# Altium integrated library antennas.IntLib: 4 symbols
Pins are listed as number, name and electrical type; pins without a type are passive.

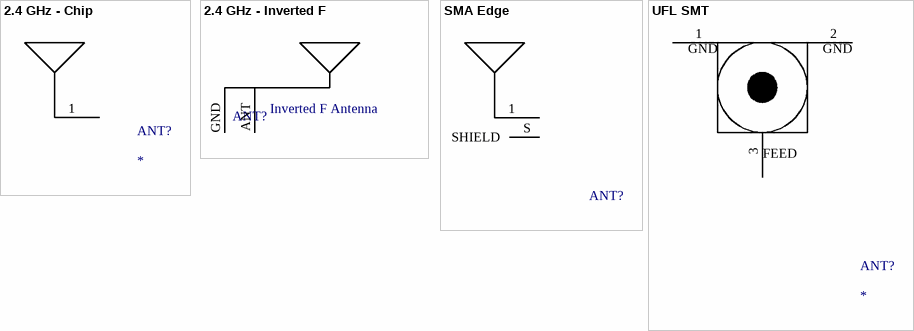
[diagram p0: symbols 2.4 GHz - Chip to UFL SMT]

## 2.4 GHz - Chip
designator ANT?
JOHANSON TECHNOLOGY - 2450AT43B100E - 50 Ohm 2.45 GHz chip antenna
footprint JT_CHIP_ANTENNA_7x2x2 (JOHANSON TECHNOLOGY 2450AT43B100E 2.45 GHZ)
pins: 1 FEED

## 2.4 GHz - Inverted F
designator ANT?  (value not drawn)
TI SWRU120D; ComponentLink1Description: Design Note; ComponentLink1URL: https://www.ti.com/lit/swru120
footprint INVERTED_F_2P4GHZ (2.4 GHz inverted F antenna, TI SWRU120D)
pins: ANT, GND
text: Inverted F Antenna

## SMA Edge
designator ANT?  (value not drawn)
Right Angle Edge Connector 1.6mm
footprint SMA_EDGE (Right Angle Edge Connector 1.6mm PCB)
pins: 1 FEED, S SHIELD

## UFL SMT
designator ANT?
UFL Coaxial, Straight Jack
footprint UFL_SMT_TOP (HIROSE  U.FL-R-SMT-1(10))
pins: 1 GND, 2 GND, 3 FEED